# EAGLE library part ULN2003 (library im)
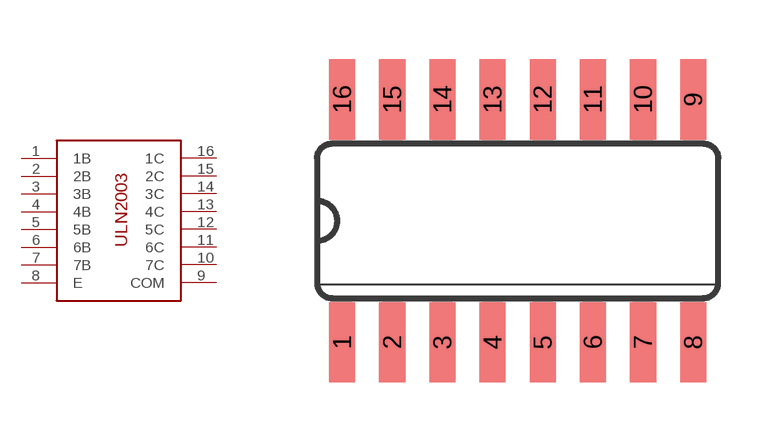
[diagram p4: symbol with the pads of SO16; footprint SO16]

Designator prefix -

## ULN2003  [SO16]
1  1B
2  2B
3  3B
4  4B
5  5B
6  6B
7  7B
8  E
9  COM
10  7C
11  6C
12  5C
13  4C
14  3C
15  2C
16  1C

## Footprint SO16 (pad centres in mm)
Small Outline Package .150 SIOC Source: http://www.maxim-ic.com/package_drawings/21-0041B.pdf
smd 0.66 x 2.032: 1 -4.445,-3.073; 2 -3.175,-3.073; 3 -1.905,-3.073; 4 -0.635,-3.073; 5 0.635,-3.073; 6 1.905,-3.073; 7 3.175,-3.073; 8 4.445,-3.073; 9 4.445,3.073; 10 3.175,3.073; 11 1.905,3.073; 12 0.635,3.073; 13 -0.635,3.073; 14 -1.905,3.073; 15 -3.175,3.073; 16 -4.445,3.073